# EAGLE library part AMIS30624C6244RG (library on-semiconductor-01)
I2C Micro-stepping Motor Driver
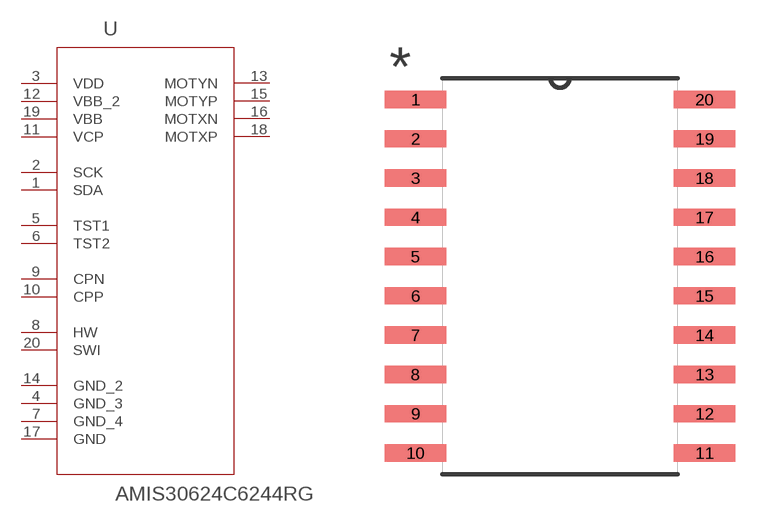
[diagram p9: symbol with the pads of SOIC127P1021X265-20N; footprint SOIC127P1021X265-20N]

Designator prefix U

## AMIS30624C6244RG (MPN: AMIS30624C6244RG; OC_FARNELL: 1641410; OC_NEWARK: 03P0834; PACKAGE: SOIC-20; SUPPLIER: ON SEMICONDUCTOR)  [SOIC127P1021X265-20N]
1  SDA  in
2  SCK  in
3  VDD  pwr
4  GND_3  pas
5  TST1  in
6  TST2  in
7  GND_4  pas
8  HW  in
9  CPN  pas
10  CPP  pas
11  VCP  in
12  VBB_2  pwr
13  MOTYN  out
14  GND_2  pas
15  MOTYP  out
16  MOTXN  out
17  GND  pas
18  MOTXP  out
19  VBB  pwr
20  SWI  in

## Footprint SOIC127P1021X265-20N (pad centres in mm)
smd 1.981 x 0.559: 1 -4.674,5.715; 2 -4.674,4.445; 3 -4.674,3.175; 4 -4.674,1.905; 5 -4.674,0.635; 6 -4.674,-0.635; 7 -4.674,-1.905; 8 -4.674,-3.175; 9 -4.674,-4.445; 10 -4.674,-5.715; 11 4.674,-5.715; 12 4.674,-4.445; 13 4.674,-3.175; 14 4.674,-1.905; 15 4.674,-0.635; 16 4.674,0.635; 17 4.674,1.905; 18 4.674,3.175; 19 4.674,4.445; 20 4.674,5.715